# EAGLE library part CC36-12RWA (library usb)
7 Segment 4 Digit 0.36inch Common Catode
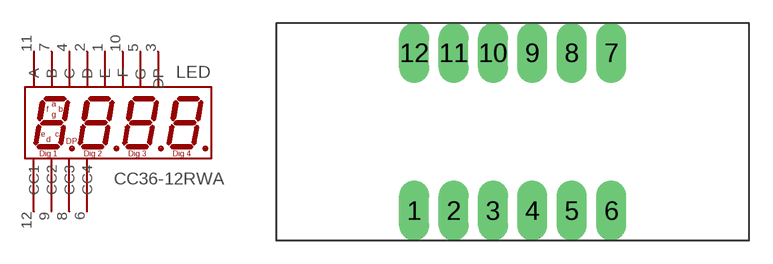
[diagram p6: symbol with the pads of 7SEG_4DIG; footprint 7SEG_4DIG]

Designator prefix LED

## CC36-12RWA  [7SEG_4DIG]
1  E  in
2  D  in
3  DP  in
4  C  in
5  G  in
6  CC4  in
7  B  in
8  CC3  in
9  CC2  in
10  F  in
11  A  in
12  CC1  in

## Footprint 7SEG_4DIG (pad centres in mm)
7Seg 4digit pattern
drill 0.9 pad 1.93 long: 1 -6.35,-5.08; 2 -3.81,-5.08; 3 -1.27,-5.08; 4 1.27,-5.08; 5 3.81,-5.08; 6 6.35,-5.08; 7 6.35,5.08; 8 3.81,5.08; 9 1.27,5.08; 10 -1.27,5.08; 11 -3.81,5.08; 12 -6.35,5.08